# EAGLE library part 74*4245 (library 74xx-lvl-xlat)
Octal BUS TRANSCEIVER, 3-state
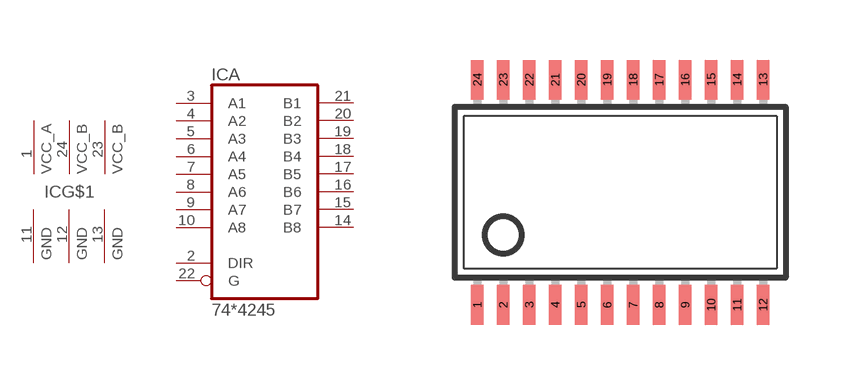
[diagram p0: symbol with the pads of TSSOP24; footprint TSSOP24]

Designator prefix IC; gates A=74245 G$1=PWR1-2-GND3

## 74LVC4245T  [TSSOP24]
1  G$1:VCCA  pwr
2  A:DIR  in
3  A:A1
4  A:A2
5  A:A3
6  A:A4
7  A:A5
8  A:A6
9  A:A7
10  A:A8
11  G$1:GND  pwr
12  G$1:GND  pwr
13  G$1:GND  pwr
14  A:B8
15  A:B7
16  A:B6
17  A:B5
18  A:B4
19  A:B3
20  A:B2
21  A:B1
22  A:G  in
23  G$1:VCCB  pwr
24  G$1:VCCB  pwr

## Footprint TSSOP24 (pad centres in mm)
Thin Shrink Small Outline Plastic 24 Source: http://www.lsicsi.com/pdfs/Drawings/TSSOP_OD.pdf
smd 0.305 x 0.991: 1 -3.575,-2.818; 2 -2.925,-2.818; 3 -2.275,-2.818; 4 -1.625,-2.818; 5 -0.975,-2.818; 6 -0.325,-2.818; 7 0.325,-2.818; 8 0.975,-2.818; 9 1.625,-2.818; 10 2.275,-2.818; 11 2.925,-2.818; 12 3.575,-2.818; 13 3.575,2.818; 14 2.925,2.818; 15 2.275,2.818; 16 1.625,2.818; 17 0.975,2.818; 18 0.325,2.818; 19 -0.325,2.818; 20 -0.975,2.818; 21 -1.625,2.818; 22 -2.275,2.818; 23 -2.925,2.818; 24 -3.575,2.818